# EAGLE library part XTR101P (library burr-brown)
BURR-BROWN
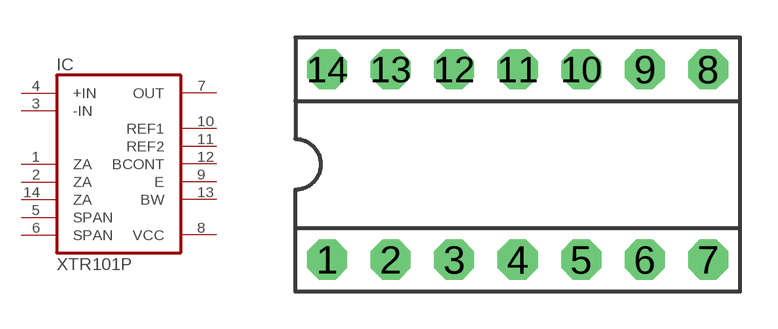
[diagram p116: symbol with the pads of DIL14; footprint DIL14]

Designator prefix IC

## XTR101P  [DIL14]
1  ZA  pas
2  ZA  pas
3  -IN  in
4  +IN  in
5  SPAN  pwr
6  SPAN  pwr
7  OUT  out
8  VCC  pwr
9  E  pas
10  REF1  out
11  REF2  out
12  BCONT  out
13  BW  pas
14  ZA  pwr

## Footprint DIL14 (pad centres in mm)
Dual In Line
drill 0.813 pad 1.6 octagon: 1 -7.62,-3.81; 2 -5.08,-3.81; 3 -2.54,-3.81; 4 0,-3.81; 5 2.54,-3.81; 6 5.08,-3.81; 7 7.62,-3.81; 8 7.62,3.81; 9 5.08,3.81; 10 2.54,3.81; 11 0,3.81; 12 -2.54,3.81; 13 -5.08,3.81; 14 -7.62,3.81